# Altium footprint library Crystal.PcbLib: 10 footprints
Each footprint in its own frame and in the unit in brackets; x right, y up, seen from the top. Pads: shape width x height; smd on the part's side, far side on the other; paste and mask are expansions set on the pad; w line width, h text height; cw(c..) or ccw(c..) is an arc to the next point about the centre after c.
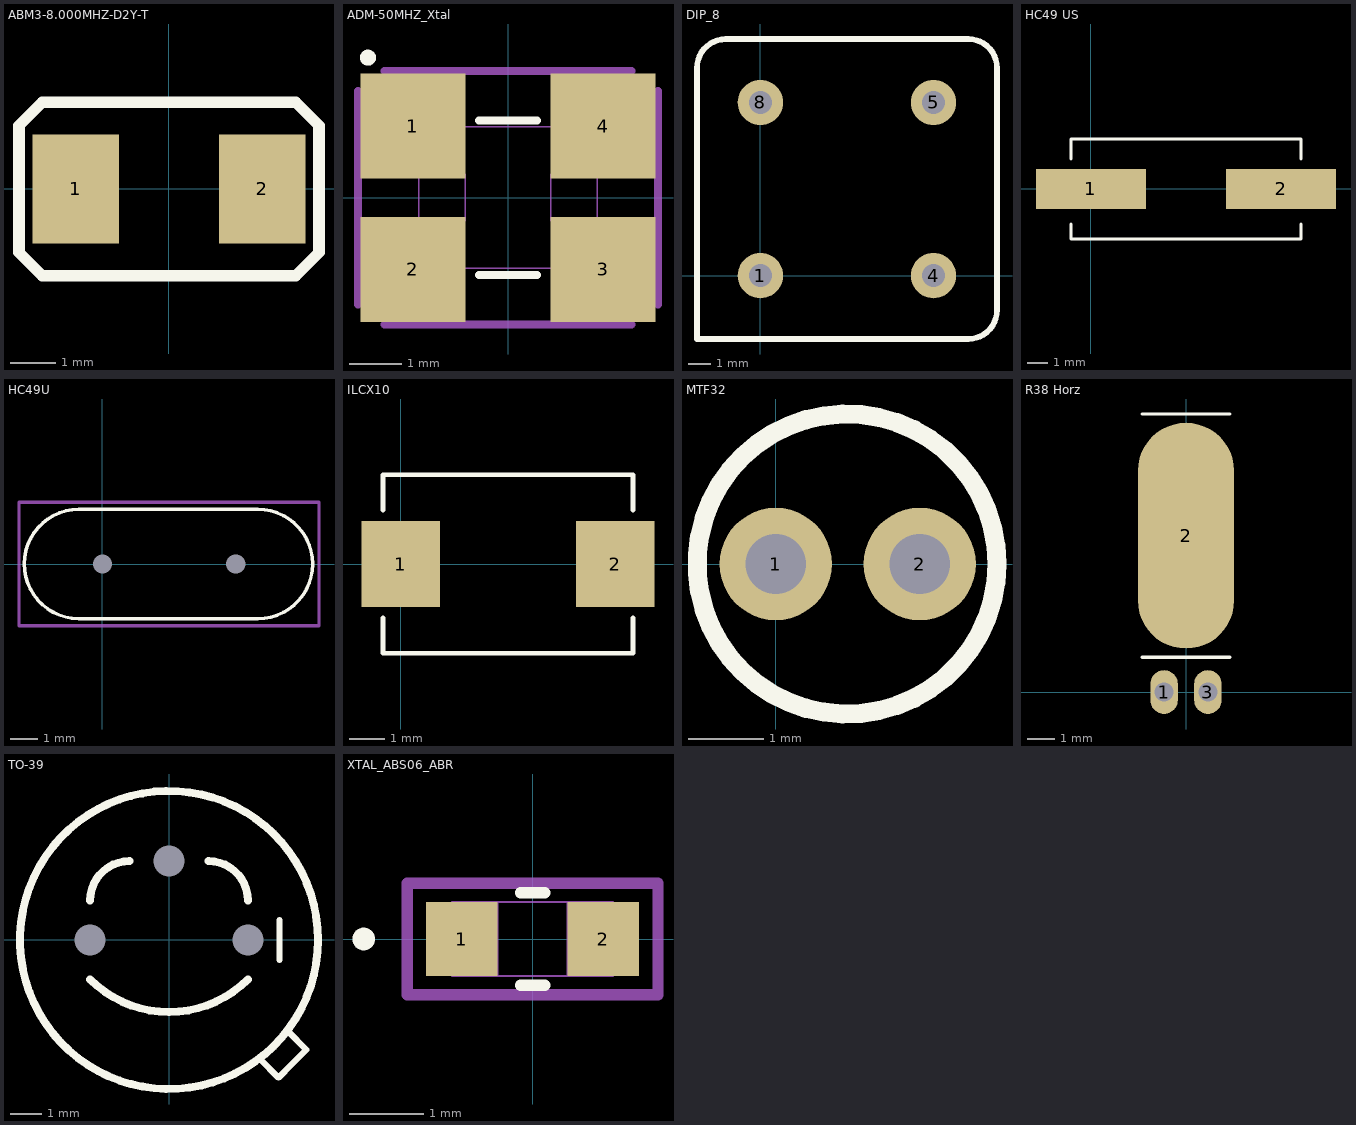
[diagram p0: the footprints below, top view; thin cyan lines are the x and y axes]

## ABM3-8.000MHZ-D2Y-T [mm]
height 0.9
pads (2):
  rect 1.9x2.4 smd: 1(-2.05,0) 2(2.05,0)
Top Overlay:
  lines w0.254: -3.302,-1.397 -2.794,-1.905 0,-1.905 2.794,-1.905 3.302,-1.397 3.302,1.397 2.794,1.905 0,1.905 -2.794,1.905 -3.302,1.397 -3.302,-1.397
3D body "User Library-ABM3.STEP": height 1.3, standoff 0, extent -2.6,-1.7 2.6,1.7

## ADM-50MHZ_Xtal [mm]
pads (4):
  rect 2x2 smd paste+0 mask+0: 1(-1.813,1.364) 2(-1.813,-1.364) 3(1.813,-1.364) 4(1.813,1.364)
Top Overlay:
  circle w0.152: c-2.667,2.667 r0.076
  lines w0.152: -0.55,-1.473 0.55,-1.473 ; -0.55,1.473 0.55,1.473
Mechanical 13:
  circle w0: c-1.305,0.825 r0.076
  lines w0.025: -1.702,-1.346 1.702,-1.346 1.702,1.346 -1.702,1.346 -1.702,-1.346 ; -1.702,-0.444 -1.702,0.445 -0.813,0.445 -0.813,-0.444 -1.702,-0.444 ; 0.813,-0.444 0.813,0.445 1.702,0.445 1.702,-0.444 0.813,-0.444
Mechanical 15:
  lines w0.152: -2.857,-2.032 -2.857,2.032 ; -2.349,-2.413 2.349,-2.413 ; -2.349,2.413 2.349,2.413 ; 2.857,-2.032 2.857,2.032
3D body: height 0.25, standoff 0, extent 0,0 0.254,0.254
3D body "CHIP_ASE-24_ABR.step": height 1.19, standoff 0, extent -1.702,-1.295 1.702,1.295

## DIP_8 [mm]
pads (4):
  round 2 hole 1: 1(0,0) 4(7.62,0) 5(7.62,7.62) 8(0,7.62)
Top Overlay:
  lines w0.254: -2.79,-2.79 9.144,-2.79 ccw(c9.144,-1.52) 10.414,-1.52 10.414,9.144 ccw(c9.144,9.144) 9.144,10.414 -1.52,10.414 -1.52,10.41 ccw(c-1.52,9.14) -2.79,9.14 -2.79,-2.79
3D body "User Library-OSC_DIP-8.step": height 4.6, standoff -2, extent -2.54,-2.54 10.16,10.16

## HC49 US [mm]
pads (2):
  rect 5.5x2 smd: 1(0,0) 2(9.5,0)
Top Overlay:
  lines w0.127: -1,-1.75 -1,-2.5 10.5,-2.5 10.5,-1.75 ; -1,1.5 -1,2.5 10.5,2.5 10.5,1.5
3D body "HC49US.step": height 4.2, standoff 0, extent -1.4,-2.25 10.9,2.25

## HC49U [mm]
pads (2):
  rrect50% 0x0 / inner rrect50% 0x0 / far side rrect50% 1.8x1.8 hole 0.7 unplated: 1(0,0) 2(4.88,0)
Top Overlay:
  lines w0.127: -0.871,-2 cw(c-0.855,0) -0.861,2 ; -0.81,-2 5.69,-2 ccw(c5.69,0) 5.69,2 -0.81,2
Mechanical 15:
  lines w0.127: -3.048,-2.261 7.899,-2.261 7.925,-2.261 7.925,2.261 -3.048,2.261 -3.048,-2.261
3D body "HC49U.STEP": height 3.6, standoff -3, extent -3.05,-2.245 7.93,2.246

## ILCX10 [mm]
pads (2):
  rect 2.2x2.4 smd: 1(0,0) 2(6,0)
Top Overlay:
  lines w0.127: -0.5,-1.5 -0.5,-2.5 6.5,-2.5 6.5,-1.5 ; -0.5,1.5 -0.5,2.5 6.5,2.5 6.5,1.5
3D body "ILCX10.step": height 1.3, standoff 0, extent -0.5,-2.5 6.5,2.5

## MTF32 [mm]
pads (2):
  round 1.5 hole 0.8: 1(0,0) 2(1.92,0)
Top Overlay:
  circle w0.254: c0.95,0 r2
3D body "MTF32.STEP": height 8.27, standoff -3.2, extent -0.67,-1.5 2.53,1.7

## R38 Horz [mm]
pads (3):
  oval 1x1.6 hole 0.7: 1(-0.8,0) 3(0.8,0)
  oval 3.5x8.255 smd: 2(0,5.715)
Top Overlay:
  lines w0.127: -1.6,1.27 1.6,1.27 ; -1.6,10.16 1.6,10.16
3D body "DT-26-1.step": height 2.5, standoff -1.5, extent -1,-0.175 1,6.965

## TO-39 [mm]
pads (3):
  rect 0x0 / inner rect 0x0 / far side rect 1.5x1.5 hole 1 unplated: 1(2.54,0)
  round 0 / inner round 0 / far side round 1.5 hole 1 unplated: 2(0,2.54) 3(-2.54,0)
Top Overlay:
  circle w0.254: c0,0 r4.8
  lines w0.203: 2.934,-3.841 3.525,-4.432 3.974,-3.983 4.423,-3.534 3.832,-2.943 ; 3.556,-0.635 3.556,0.635
  lines w0.254: -2.54,-1.27 ccw(c0,1.27) 2.54,-1.27 ; -2.54,1.27 cw(c-1.27,1.27) -1.27,2.54 ; 1.27,2.54 cw(c1.27,1.27) 2.54,1.27
3D body "TO-39_2N2904.step": height 6.5, standoff -3, extent -4.5,-4.5 4.5,4.5

## XTAL_ABS06_ABR [mil]
pads (2):
  rect 37.78x39 smd paste+0 mask+0: 1(-37.39,0) 2(37.39,0)
Top Overlay:
  circle w6: c-89.28,0 r3
  lines w6: -6.39,-24.5 6.39,-24.5 ; -6.39,24.5 6.39,24.5
Mechanical 13:
  circle w0: c-32.39,0 r3
  lines w1: -42.5,-19.5 -42.5,19.5 ; -42.5,-19.5 42.5,-19.5 ; -42.5,-19.5 -18.5,-19.5 -18.5,19.5 -42.5,19.5 ; -42.5,-19.5 -42.5,19.5 ; -42.5,19.5 42.5,19.5 ; 42.5,-19.5 42.5,19.5 ; 42.5,-19.5 42.5,19.5 ; 42.5,-19.5 18.5,-19.5 18.5,19.5 42.5,19.5
Mechanical 15:
  lines w6: -66.28,-29.5 66.28,-29.5 66.28,29.5 -66.28,29.5 -66.28,-29.5
3D body "XTAL_ABS06_ABR.step": height 20, standoff 0, extent -42.51,-19.48 42.52,19.49